# Altium schematic symbol library Specific Devices.SchLib: 7 symbols
Pins are listed as number, name and electrical type; pins without a type are passive.

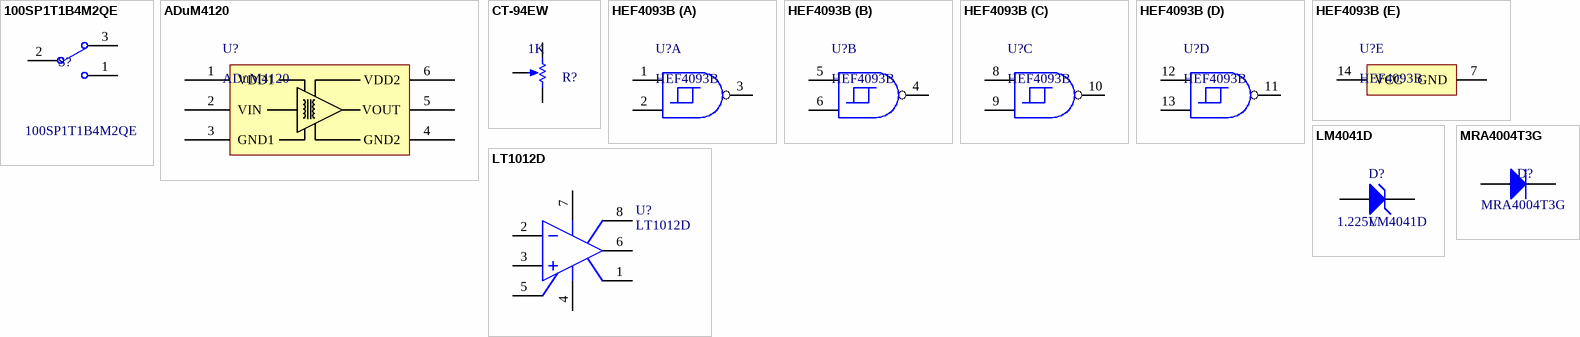
[diagram p0: symbols 100SP1T1B4M2QE to MRA4004T3G]

## 100SP1T1B4M2QE
designator S?  Part Number: 100SP1T1B4M2QE
SPDT Subminiature Toggle Switch, PCB mount, verticle,; Voltage: 28VDC 120VAC; Current: 5A; 1k Price: $2.01; ComponentLink1Description: Drawings; ComponentLink1URL: http://spec_sheets.e-switch.com/specs/T111597.pdf; ComponentLink2Description: Digikey; ComponentLink2URL: https://www.digikey.ca/product-detail/en/e-switch/100SP1T1B4M2QE/EG2355-ND/378824; ComponentLink3Description: Datasheet; ComponentLink3URL: https://sten-eswitch-13110800-production.s3.amazonaws.com/system/asset/product_line/data_sheet/129/100.pdf; Power: *; Value: *
footprint 100SP1T1B4M2QE
pins: 1, 2, 3

## ADuM4120
designator U?
Isolated Gate-Driver
footprint SOIC RI-6-1 (SOIC, 6-Leads, Wide Body 4.58x7.50mm, Pitch 1.27mm, IPC Medium Density)
pins: 1 VDD1, 2 VIN, 3 GND1, 4 GND2, 5 VOUT, 6 VDD2

## CT-94EW
designator R?  value 1K
Potentiometer, CT-94EW Series, 18 Turn, 0.5W, Linear; Power: 0.5; 1K Price: 1.28594; Part Number: CT-94EW; Voltage: *; Current: *; ComponentLink1Description: Datasheet; ComponentLink1URL: https://www.nidec-copal-electronics.com/e/catalog/trimmer/ct-94.pdf
simulation model POT (Potentiometer)
footprint CT-94EW
pins: 1 TOP, 2 TAP, 3 BOT
1 alternate drawing of the same symbol

## HEF4093B
designator U?
Quad 2-Input NAND Gates with Schmitt Trigger, 15V compliant; Part Number: HEF4093BT,653; 1k Price: 0.13083; Value: *; Voltage: 15V; Current: *; Power: *; ComponentLink1Description: Digikey; ComponentLink1URL: https://www.digikey.com/product-detail/en/nexperia-usa-inc/HEF4093BT653/1727-2951-1-ND/763507; ComponentLink2Description: Datasheet; ComponentLink2URL: https://assets.nexperia.com/documents/data-sheet/HEF4093B.pdf
footprint SO14 (SOIC, 14-Leads, Body 8.65x3.90mm, Pitch 1.27mm, IPC Medium Density)
part A pins: 1 1A, 2 1B, 3 1Y (oc)
part B pins: 4 2Y (oc), 5 2A, 6 2B
part C pins: 8 3A, 9 3B, 10 3Y (oc)
part D pins: 11 4Y (oc), 12 4A, 13 4B
part E pins: 7 GND, 14 VCC

## LM4041D
designator D?  Voltage: 1.225V
Zener Diode; Part Number: LM4041DYM3-1.2-TR; 1k Price: 0.22660; Current: 12mA; Power: *; Value: *
simulation model ZENER (Diode)
signal-integrity model D Zener
footprint SOT-23-3 (SOT23, 3-Leads, Body 2.92x2.37mm, Pitch 0.95mm, IPC Medium Density)
pins: 1 K, 2 A

## LT1012D
designator U?
Precision Operational Amplifier; Part Number: LT1012DN8#PBF; 1k Price: 1.97600; Voltage: 40V; ComponentLink1Description: Digikey; ComponentLink1URL: LT1012DN8#PBF; ComponentLink2Description: Datasheet; ComponentLink2URL: https://www.analog.com/media/en/technical-documentation/data-sheets/LT1012.pdf; Value: *; Current: *; Power: *
footprint PDIP-8 (DIP, 8-Leads, Body 10.16x6.48mm, Pitch 2.54mm)
pins: 1 OS NUL, 2 IN-, 3 IN+, 4 V-, 5 OS NUL, 6 OUT, 7 V+, 8 TAB

## MRA4004T3G
designator D?  Part Number: MRA4004T3G
DIODE GEN PURP 1A 400V SMA; 1k Price: 0.05595; Voltage: 400V; Current: 1A; Value: *; Power: *; ComponentLink1Description: Datasheet; ComponentLink1URL: https://www.onsemi.com/pub/Collateral/MRA4003T3-D.PDF; ComponentLink2Description: Digikey; ComponentLink2URL: https://www.digikey.com/product-detail/en/MRA4004T3G/MRA4004T3GOSCT-ND/
simulation model DIODE (Diode)
signal-integrity model Diode
footprint SMA (Molded, 2-Leads, Body 4.57x2.92mm)
pins: 1 K, 2 A